# EAGLE library part LPC1317FHN33 (library nxp_60_1_1)
32-bit ARM Cortex-M3 microcontroller; up to 64 kB flash; up to 12 kB SRAM; USB device; USART; EEPROM The LPC1315/16/17/45/46/47 are ARM Cortex-M3 based microcontrollers for embedded applications featuring a high level of integration and low power consumption. The ARM Cortex-M3 is a next generation core that offers system enhancements such as enhanced debug features and a higher level of support block integration. The LPC1315/16/17/45/46/47 operate at CPU frequencies of up to 72 MHz. The ARM Cortex-M3 CPU incorporates a 3-stage pipeline and uses a Harvard architecture with separate local instruction and data buses as well as a third bus for peripherals. The ARM Cortex-M3 CPU also includes an internal prefetch unit that supports speculative branching. Equipped with a highly flexible and configurable Full-Speed USB 2.0 device controller available on the LPC1345/46/47, this series brings unparalleled design flexibility and seamless integration to today’s demanding connectivity solutions. The peripheral complement of the LPC1315/16/17/45/46/47 includes up to 64 kB of flash memory, 8 kB or 10 kB of SRAM data memory, one Fast-mode Plus I 2 C-bus interface, one RS-485/EIA-485 USART with support for synchronous mode and smart card interface, two SSP interfaces, four general purpose counter/timers, an 8-channel, 12-bit ADC, and up to 51 general purpose I/O pins. AAL Eindhoven MK
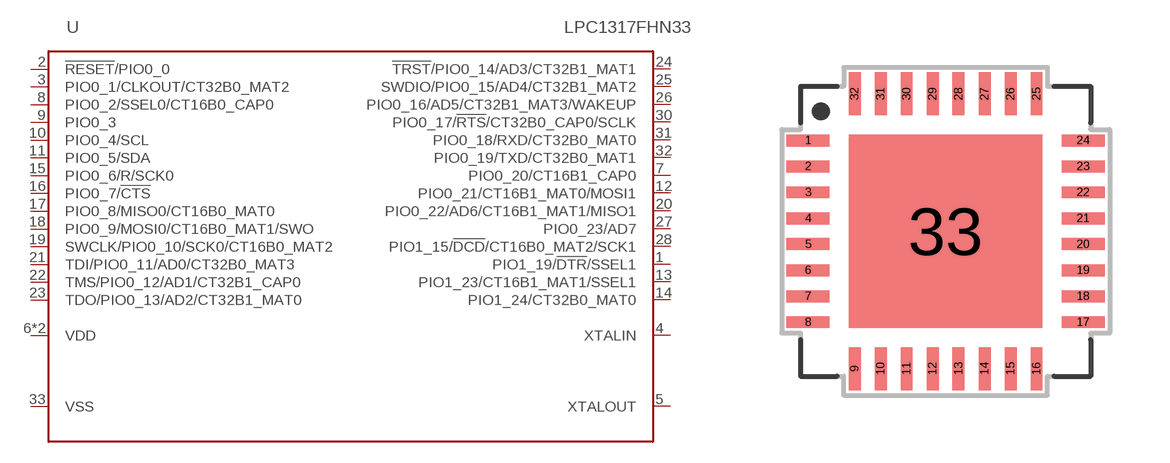
[diagram p228: symbol with the pads of SOT-HVQFN33; footprint SOT-HVQFN33]

Designator prefix U

## LPC1317FHN33 (EEPROM: 4kB; FLASH: 64kB; GPIO: 28; SRAM0: 8kB; SRAM1: 2kB; SRAM_USB: -; USB: no)  [SOT-HVQFN33]
1  PIO1_19/!DTR!/SSEL1
2  !RESET!/PIO0_0
3  PIO0_1/CLKOUT/CT32B0_MAT2
4  XTALIN  in
5  XTALOUT  out
6  VDD  pwr
7  PIO0_20/CT16B1_CAP0
8  PIO0_2/SSEL0/CT16B0_CAP0
9  PIO0_3
10  PIO0_4/SCL
11  PIO0_5/SDA
12  PIO0_21/CT16B1_MAT0/MOSI1
13  PIO1_23/CT16B1_MAT1/SSEL1
14  PIO1_24/CT32B0_MAT0
15  PIO0_6/R/SCK0
16  PIO0_7/!CTS!
17  PIO0_8/MISO0/CT16B0_MAT0
18  PIO0_9/MOSI0/CT16B0_MAT1/SWO
19  SWCLK/PIO0_10/SCK0/CT16B0_MAT2
20  PIO0_22/AD6/CT16B1_MAT1/MISO1
21  TDI/PIO0_11/AD0/CT32B0_MAT3
22  TMS/PIO0_12/AD1/CT32B1_CAP0
23  TDO/PIO0_13/AD2/CT32B1_MAT0
24  !TRST!/PIO0_14/AD3/CT32B1_MAT1
25  SWDIO/PIO0_15/AD4/CT32B1_MAT2
26  PIO0_16/AD5/CT32B1_MAT3/WAKEUP
27  PIO0_23/AD7
28  PIO1_15/!DCD!/CT16B0_MAT2/SCK1
29  VDD  pwr
30  PIO0_17/!RTS!/CT32B0_CAP0/SCLK
31  PIO0_18/RXD/CT32B0_MAT0
32  PIO0_19/TXD/CT32B0_MAT1
33  VSS  pwr

## Footprint SOT-HVQFN33 (pad centres in mm)
SOTxxx HVQFN33: plastic thermal enhanced very thin quad flat package; no leads; 33 terminals; body 7 x 7 x 0.85 mm JEDEC: --- IEC: --- Package according LPC111x datasheet
smd 1.075 x 0.3: 1 -3.438,2.275; 2 -3.438,1.625; 3 -3.438,0.975; 4 -3.438,0.325; 5 -3.438,-0.325; 6 -3.438,-0.975; 7 -3.438,-1.625; 8 -3.438,-2.275; 17 3.438,-2.275; 18 3.438,-1.625; 19 3.438,-0.975; 20 3.438,-0.325; 21 3.438,0.325; 22 3.438,0.975; 23 3.438,1.625; 24 3.438,2.275
smd 0.3 x 1.075: 9 -2.275,-3.438; 10 -1.625,-3.438; 11 -0.975,-3.438; 12 -0.325,-3.438; 13 0.325,-3.438; 14 0.975,-3.438; 15 1.625,-3.438; 16 2.275,-3.438; 25 2.275,3.438; 26 1.625,3.438; 27 0.975,3.438; 28 0.325,3.438; 29 -0.325,3.438; 30 -0.975,3.438; 31 -1.625,3.438; 32 -2.275,3.438
smd 4.85 x 4.85: 33 0,0